# EAGLE library part 61001211921 (library Wuerth_Elektronik_eiCan_Pin_&_Socked_Headers_v1.3)
WR-PHD 2.54mm SMT Socket Header, 12 Pins
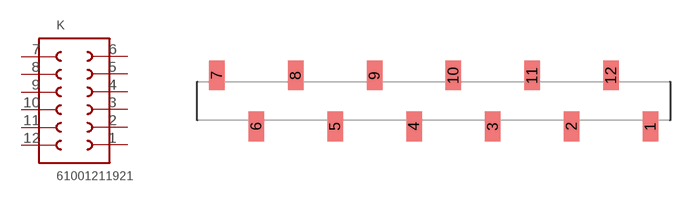
[diagram p235: symbol with the pads of 61001211921; footprint 61001211921]

Designator prefix K

## 61001211921  [61001211921]
1  7  pas
2  8  pas
3  9  pas
4  10  pas
5  11  pas
6  12  pas
7  1  pas
8  2  pas
9  3  pas
10  4  pas
11  5  pas
12  6  pas

## Footprint 61001211921 (pad centres in mm)
WR-PHD 2.54mm SMT Socket Header, 12 Pins
smd 1 x 1.91: 1 13.97,-1.645; 2 8.89,-1.645; 3 3.81,-1.645; 4 -1.27,-1.645; 5 -6.35,-1.645; 6 -11.43,-1.645; 7 -13.97,1.645; 8 -8.89,1.645; 9 -3.81,1.645; 10 1.27,1.645; 11 6.35,1.645; 12 11.43,1.645